# Altium schematic symbol library Crystal Oscillator.SchLib: 3 symbols
Pins are listed as number, name and electrical type; pins without a type are passive.

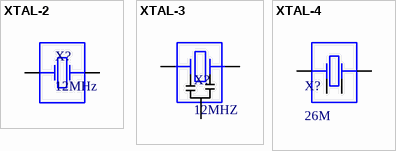
[diagram p0: symbols XTAL-2 to XTAL-4]

## XTAL-2
designator X?, comment 12MHz
2-Pin crystal; BOM名称: 2脚晶振; 版权归属: 源创客; 学习资源: www.ooocke.com
footprint XTAL-3X10
footprint XTAL-3X8
footprint XTAL-2X6H
footprint XTAL-2X6
footprint XTAL-HC49S-SMD
footprint XTAL-3X8H
footprint XTAL-HC49S-THD
footprint XTAL-2012-2
footprint XTAL-ABM3-2 (Quartz)
footprint XTAL-3215-2
footprint XTAL-5032-2
footprint XTAL-3225-2
footprint XTAL-ABM7-2
pins: 1, 2 3

## XTAL-3
designator X?, comment 12MHZ
3-Pin crystal
footprint XTAL-3213
pins: 1, 2 GND, 3

## XTAL-4
designator X?, comment 26M
4-Pin crystal; BOM名称: 4脚晶振; 版权归属: 源创客; 学习资源: www.ooocke.com
footprint XTAL-5070-4
footprint XTAL-2520-4
footprint XTAL-2016-4
footprint XTAL-3225-4
footprint XTAL-8038-4
footprint XTAL-1206-4
pins: 1, 2, 3, 4